# EAGLE library part LT3579 (library LiPoPSU)
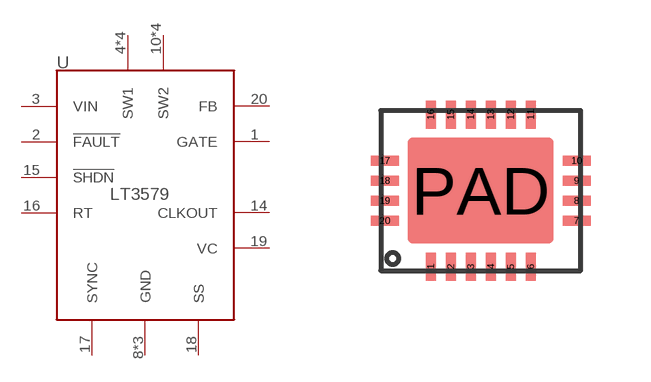
[diagram p1: symbol with the pads of QFN20-4X5(UFD); footprint QFN20-4X5(UFD)]

Designator prefix U

## LT3579  [QFN20-4X5(UFD)]
1  GATE
2  !FAULT!  oc
3  VIN  in
4  SW1
5  SW1
6  SW1
7  SW1
8  GND  pwr
9  GND  pwr
10  SW2
11  SW2
12  SW2
13  SW2
14  CLKOUT
15  !SHDN!  in
16  RT  in
17  SYNC  in
18  SS  in
19  VC
20  FB
PAD  GND  pwr

## Footprint QFN20-4X5(UFD) (pad centres in mm)
UFD Package 20-Lead Plastic QFN (4mm × 5mm) (Reference LTC DWG # 05-08-1711 Rev B)
smd 0.25 x 0.7: 1 -1.25,-1.9; 2 -0.75,-1.9; 3 -0.25,-1.9; 4 0.25,-1.9; 5 0.75,-1.9; 6 1.25,-1.9; 11 1.25,1.9; 12 0.75,1.9; 13 0.25,1.9; 14 -0.25,1.9; 15 -0.75,1.9; 16 -1.25,1.9
smd 0.7 x 0.25: 7 2.4,-0.75; 8 2.4,-0.25; 9 2.4,0.25; 10 2.4,0.75; 17 -2.4,0.75; 18 -2.4,0.25; 19 -2.4,-0.25; 20 -2.4,-0.75
smd 3.65 x 2.65: PAD 0,0